# Altium footprint library VOU_SOM_Vlad.PcbLib: 31 footprints (part 2 of 2)
Each footprint in its own frame and in the unit in brackets; x right, y up, seen from the top. Pads: shape width x height; smd on the part's side, far side on the other; paste and mask are expansions set on the pad; w line width, h text height; cw(c..) or ccw(c..) is an arc to the next point about the centre after c.
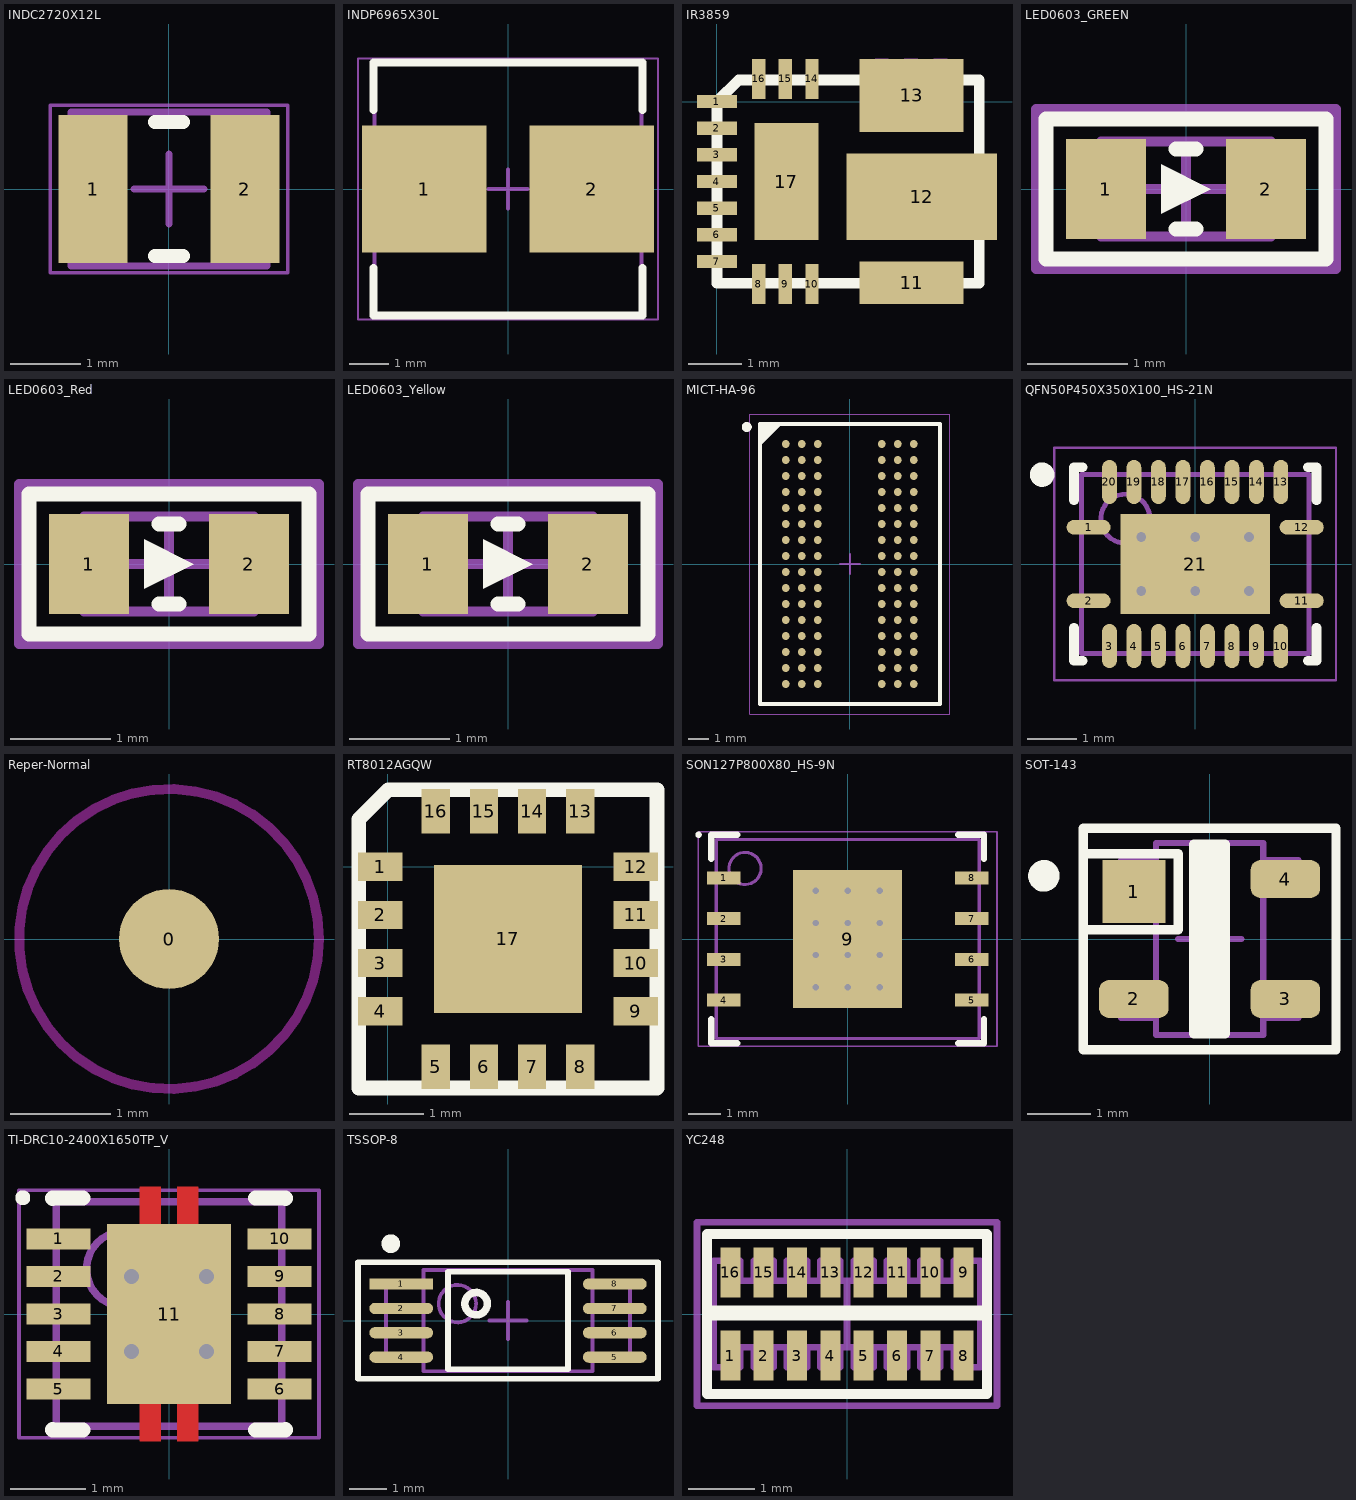
[diagram p1: the footprints below, top view; thin cyan lines are the x and y axes]

## INDC2720X12L [mm]
pads (2):
  rect 0.99x2.12 smd: 1(-1.085,0) 2(1.085,0)
Top Overlay:
  lines w0.2: -0.2,-0.96 0.2,-0.96 ; -0.2,0.96 0.2,0.96
Mechanical 13:
  lines w0.1: -1.4,-1.1 1.4,-1.1 1.4,1.1 -1.4,1.1 -1.4,-1.1
Mechanical 15:
  lines w0.05: -1.7,-1.2 1.7,-1.2 1.7,1.2 -1.7,1.2 -1.7,-1.2
  lines w0.1: -0.5,0 0.5,0 ; 0,-0.5 0,0.5
3D body: height 1.2, standoff 0, extent 0.8,-1.1 1.4,1.1
3D body: height 1.2, standoff 0, extent -1.4,-1.1 -0.8,1.1
3D body: height 1.2, standoff 0, extent -0.8,-1.1 0.8,1.1

## INDP6965X30L [mm]
pads (2):
  rect 3.2x3.25 smd: 1(-2.15,0) 2(2.15,0)
Top Overlay:
  lines w0.2: -3.45,-2.025 -3.45,-3.25 3.45,-3.25 3.45,-2.025 ; -3.45,2.025 -3.45,3.25 3.45,3.25 3.45,2.025
Mechanical 13:
  lines w0.1: -3.43,-3.235 -3.43,3.235 3.43,3.235 3.43,-3.235 -3.43,-3.235
Mechanical 15:
  lines w0.05: -3.85,-3.35 -3.85,3.35 3.85,3.35 3.85,-3.35 -3.85,-3.35
  lines w0.1: -0.5,0 0.5,0 ; 0,-0.5 0,0.5
3D body: height 3, standoff 0, extent -3.43,-3.235 3.43,3.235

## IR3859 [mm]
pads (17):
  rect 0.75x0.25 smd: 1(0,0) 2(0,-0.5) 3(0,-1) 4(0,-1.5) 5(0,-2) 6(0,-2.5) 7(0,-3)
  rect 0.25x0.75 smd: 8(0.78,-3.425) 9(1.28,-3.425) 10(1.78,-3.425) 14(1.78,0.425) 15(1.28,0.425) 16(0.78,0.425)
  rect 1.95x0.8 smd: 11(3.65,-3.395)
  rect 2.82x1.62 smd: 12(3.84,-1.785)
  rect 1.95x1.37 smd: 13(3.65,0.115)
  rect 1.2x2.19 smd: 17(1.3,-1.5)
Top Overlay:
  lines w0.2: 0,-3.41 4.915,-3.41 4.915,0.405 0.405,0.405 0,0 0,-3.41
Mechanical 11:
  pour cut-out: 2.975,-3.795 3.225,-3.795 3.225,-3.395 2.975,-3.395
  pour cut-out: 3.525,-3.795 3.775,-3.795 3.775,-3.395 3.525,-3.395
  pour cut-out: 4.075,-3.795 4.325,-3.795 4.325,-3.395 4.075,-3.395
  pour cut-out: 4.065,0.4 4.315,0.4 4.315,0.8 4.065,0.8
  pour cut-out: 3.515,0.4 3.765,0.4 3.765,0.8 3.515,0.8
  pour cut-out: 2.965,0.4 3.215,0.4 3.215,0.8 2.965,0.8
  pour cut-out: 5.25,-1.635 5.25,-1.275 4.85,-1.275 4.85,-1.635
  pour cut-out: 5.25,-2.295 5.25,-1.935 4.85,-1.935 4.85,-2.295
Mechanical 17:
  text ".Designator" at -0.6,1.3 h2.1
3D body: height 1, standoff 0.05, extent 0,-3.41 4.915,0.43

## LED0603_GREEN [mm]
pads (2):
  rect 0.8x1 smd: 1(-0.8,0) 2(0.8,0)
Top Overlay:
  region: -0.25,0.25 -0.25,-0.25 0.25,0
  lines w0.15: -0.1,-0.4 0.1,-0.4 ; -0.1,0.4 0.1,0.4 ; -1.4,-0.7 1.4,-0.7 1.4,0.7 -1.4,0.7 -1.4,-0.7
Mechanical 13:
  lines w0.1: -0.5,-0.475 -0.5,0.475 ; 0.5,-0.475 0.5,0.475 ; -0.85,-0.475 -0.85,0.475 0.85,0.475 0.85,-0.475 -0.85,-0.475
Mechanical 15:
  lines w0.1: -0.475,0 0.475,0 ; 0,-0.475 0,0.475 ; -1.5,-0.8 -1.5,0.8 1.5,0.8 1.5,-0.8 -1.5,-0.8
3D body "Led0603_GREEN.STEP": height 1.1, standoff 0, extent -0.81,-0.4 0.81,0.4

## LED0603_Red [mm]
pads (2):
  rect 0.8x1 smd: 1(-0.8,0) 2(0.8,0)
Top Overlay:
  region: -0.25,0.25 -0.25,-0.25 0.25,0
  lines w0.15: -0.1,-0.4 0.1,-0.4 ; -0.1,0.4 0.1,0.4 ; -1.4,-0.7 1.4,-0.7 1.4,0.7 -1.4,0.7 -1.4,-0.7
Mechanical 13:
  lines w0.1: -0.5,-0.475 -0.5,0.475 ; 0.5,-0.475 0.5,0.475 ; -0.85,-0.475 -0.85,0.475 0.85,0.475 0.85,-0.475 -0.85,-0.475
Mechanical 15:
  lines w0.1: -0.475,0 0.475,0 ; 0,-0.475 0,0.475 ; -1.5,-0.8 -1.5,0.8 1.5,0.8 1.5,-0.8 -1.5,-0.8
3D body "Led0603_RED (1).STEP": height 1.1, standoff 0, extent -0.81,-0.4 0.81,0.4

## LED0603_Yellow [mm]
pads (2):
  rect 0.8x1 smd: 1(-0.8,0) 2(0.8,0)
Top Overlay:
  region: -0.25,0.25 -0.25,-0.25 0.25,0
  lines w0.15: -0.1,-0.4 0.1,-0.4 ; -0.1,0.4 0.1,0.4 ; -1.4,-0.7 1.4,-0.7 1.4,0.7 -1.4,0.7 -1.4,-0.7
Mechanical 13:
  lines w0.1: -0.5,-0.475 -0.5,0.475 ; 0.5,-0.475 0.5,0.475 ; -0.85,-0.475 -0.85,0.475 0.85,0.475 0.85,-0.475 -0.85,-0.475
Mechanical 15:
  lines w0.1: -0.475,0 0.475,0 ; 0,-0.475 0,0.475 ; -1.5,-0.8 -1.5,0.8 1.5,0.8 1.5,-0.8 -1.5,-0.8
3D body "Led0603_yellow.STEP": height 1.1, standoff 0, extent -0.81,-0.4 0.81,0.4

## MICT-HA-96 [mm]
pads (96):
  round 0.4 smd: A1(-3.2,6) A2(-2.4,6) A3(-1.6,6) A7(1.6,6) A8(2.4,6) A9(3.2,6) B1(-3.2,5.2) B2(-2.4,5.2) B3(-1.6,5.2) B7(1.6,5.2) B8(2.4,5.2) B9(3.2,5.2) C1(-3.2,4.4) C2(-2.4,4.4) C3(-1.6,4.4) C7(1.6,4.4) C8(2.4,4.4) C9(3.2,4.4) D1(-3.2,3.6) D2(-2.4,3.6) D3(-1.6,3.6) D7(1.6,3.6) D8(2.4,3.6) D9(3.2,3.6) E1(-3.2,2.8) E2(-2.4,2.8) E3(-1.6,2.8) E7(1.6,2.8) E8(2.4,2.8) E9(3.2,2.8) F1(-3.2,2) F2(-2.4,2) F3(-1.6,2) F7(1.6,2) F8(2.4,2) F9(3.2,2) G1(-3.2,1.2) G2(-2.4,1.2) G3(-1.6,1.2) G7(1.6,1.2) G8(2.4,1.2) G9(3.2,1.2) H1(-3.2,0.4) H2(-2.4,0.4) H3(-1.6,0.4) H7(1.6,0.4) H8(2.4,0.4) H9(3.2,0.4) J1(-3.2,-0.4) J2(-2.4,-0.4) J3(-1.6,-0.4) J7(1.6,-0.4) J8(2.4,-0.4) J9(3.2,-0.4) K1(-3.2,-1.2) K2(-2.4,-1.2) K3(-1.6,-1.2) K7(1.6,-1.2) K8(2.4,-1.2) K9(3.2,-1.2) L1(-3.2,-2) L2(-2.4,-2) L3(-1.6,-2) L7(1.6,-2) L8(2.4,-2) L9(3.2,-2) M1(-3.2,-2.8) M2(-2.4,-2.8) M3(-1.6,-2.8) M7(1.6,-2.8) M8(2.4,-2.8) M9(3.2,-2.8) N1(-3.2,-3.6) N2(-2.4,-3.6) N3(-1.6,-3.6) N7(1.6,-3.6) N8(2.4,-3.6) N9(3.2,-3.6) P1(-3.2,-4.4) P2(-2.4,-4.4) P3(-1.6,-4.4) P7(1.6,-4.4) P8(2.4,-4.4) P9(3.2,-4.4) R1(-3.2,-5.2) R2(-2.4,-5.2) R3(-1.6,-5.2) R7(1.6,-5.2) R8(2.4,-5.2) R9(3.2,-5.2) T1(-3.2,-6) T2(-2.4,-6) T3(-1.6,-6) T7(1.6,-6) T8(2.4,-6) T9(3.2,-6)
Top Overlay:
  circle w0.25: c-5.15,6.85 r0.125
  region: -3.5,7 -4.5,6 -4.5,7
  lines w0.2: -4.5,6 -3.5,7 ; -4.5,-7 4.5,-7 4.5,7 -4.5,7 -4.5,-7
Mechanical 13:
  lines w0.1: -4.5,-7 4.5,-7 4.5,7 -4.5,7 -4.5,-7
Mechanical 15:
  lines w0.05: -5,-7.5 5,-7.5 5,7.5 -5,7.5 -5,-7.5
  lines w0.1: -0.5,0 0.5,0 ; 0,-0.5 0,0.5
Mechanical 17:
  text ".Designator" at -4.8,7.525 h2.1
3D body: height 0.1, standoff 0, extent -4.5,-7 4.5,7

## QFN50P450X350X100_HS-21N [mm]
pads (21):
  oval 0.9x0.3 smd: 1(-2.175,0.75) 2(-2.175,-0.75) 11(2.175,-0.75) 12(2.175,0.75)
  oval 0.3x0.9 smd: 3(-1.75,-1.675) 4(-1.25,-1.675) 5(-0.75,-1.675) 6(-0.25,-1.675) 7(0.25,-1.675) 8(0.75,-1.675) 9(1.25,-1.675) 10(1.75,-1.675) 13(1.75,1.675) 14(1.25,1.675) 15(0.75,1.675) 16(0.25,1.675) 17(-0.25,1.675) 18(-0.75,1.675) 19(-1.25,1.675) 20(-1.75,1.675)
  rect 3.05x2.05 smd: 21(0,0)
via -1.1,0.55 diameter 0.5 hole 0.2
via 0,0.55 diameter 0.5 hole 0.2
via 1.1,0.55 diameter 0.5 hole 0.2
via -1.1,-0.55 diameter 0.5 hole 0.2
via 0,-0.55 diameter 0.5 hole 0.2
via 1.1,-0.55 diameter 0.5 hole 0.2
Top Overlay:
  circle w0.25: c-3.125,1.825 r0.125
  lines w0.2: -2.475,-1.3 -2.475,-1.975 -2.3,-1.975 ; -2.475,1.3 -2.475,1.975 -2.3,1.975 ; 2.3,-1.975 2.475,-1.975 2.475,-1.3 ; 2.3,1.975 2.475,1.975 2.475,1.3
Mechanical 13:
  circle w0.1: c-1.425,0.925 r0.5
  lines w0.1: -2.325,-1.825 -2.325,1.825 2.325,1.825 2.325,-1.825 -2.325,-1.825
Mechanical 15:
  lines w0.05: -2.875,-2.375 -2.875,2.375 2.875,2.375 2.875,-2.375 -2.875,-2.375
  lines w0.1: -0.5,0 0.5,0 ; 0,-0.5 0,0.5
3D body: height 1, standoff 0.05, extent -2.325,-1.825 2.325,1.825

## Reper-Normal [mm]
pads (1):
  round 1 smd mask+1: 0(0,0)
Top Layer keep-out:
  circle w0.1: c0,0 r1.5

## RT8012AGQW [mm]
pads (17):
  rect 0.6x0.38 smd: 1(-0.1,0) 2(-0.1,-0.65) 3(-0.1,-1.3) 4(-0.1,-1.95) 9(3.35,-1.95) 10(3.35,-1.3) 11(3.35,-0.65) 12(3.35,0)
  rect 0.38x0.6 smd: 5(0.65,-2.7) 6(1.3,-2.7) 7(1.95,-2.7) 8(2.6,-2.7) 13(2.6,0.75) 14(1.95,0.75) 15(1.3,0.75) 16(0.65,0.75)
  rect 2x2 smd: 17(1.625,-0.975)
Top Overlay:
  lines w0.2: -0.39,-2.985 -0.39,0.64 0.01,1.04 3.635,1.04 3.635,-2.985 -0.39,-2.985
Mechanical 17:
  text ".Designator" at -1.125,1.675 h2.1
3D body: height 0.8, standoff 0.05, extent -0.4,-2.985 3.635,1.05

## SON127P800X80_HS-9N [mm]
pads (9):
  rect 1.05x0.4 smd: 1(-3.87,1.905) 2(-3.87,0.635) 3(-3.87,-0.635) 4(-3.87,-1.905) 5(3.87,-1.905) 6(3.87,-0.635) 7(3.87,0.635) 8(3.87,1.905)
  rect 3.4x4.3 smd paste-1.7: 9(0,0)
via -1,1.5 diameter 0.5 hole 0.2
via 0,1.5 diameter 0.5 hole 0.2
via 1,1.5 diameter 0.5 hole 0.2
via -1,0.5 diameter 0.5 hole 0.2
via 0,0.5 diameter 0.5 hole 0.2
via 1,0.5 diameter 0.5 hole 0.2
via -1,-0.5 diameter 0.5 hole 0.2
via 0,-0.5 diameter 0.5 hole 0.2
via 1,-0.5 diameter 0.5 hole 0.2
via -1,-1.5 diameter 0.5 hole 0.2
via 0,-1.5 diameter 0.5 hole 0.2
via 1,-1.5 diameter 0.5 hole 0.2
Top Overlay:
  circle w0.1: c-4.65,3.25 r0.05
  lines w0.2: -4.25,-2.505 -4.25,-3.25 -3.445,-3.25 ; -4.25,2.505 -4.25,3.25 -3.445,3.25 ; 3.445,-3.25 4.25,-3.25 4.25,-2.505 ; 3.445,3.25 4.25,3.25 4.25,2.505
Top Paste:
  rectangle: -1.595,0.815 -0.665,2.045
  rectangle: -1.595,-0.615 -0.665,0.615
  rectangle: -1.595,-2.045 -0.665,-0.815
  rectangle: -0.465,0.815 0.465,2.045
  rectangle: -0.465,-0.615 0.465,0.615
  rectangle: -0.465,-2.045 0.465,-0.815
  rectangle: 0.665,0.815 1.595,2.045
  rectangle: 0.665,-0.615 1.595,0.615
  rectangle: 0.665,-2.045 1.595,-0.815
Mechanical 13:
  circle w0.1: c-3.2,2.2 r0.5
  lines w0.1: -4.1,-3.1 -4.1,3.1 4.1,3.1 4.1,-3.1 -4.1,-3.1
Mechanical 15:
  lines w0.05: -4.655,-3.35 -4.655,3.35 4.655,3.35 4.655,-3.35 -4.655,-3.35
  lines w0.1: -0.5,0 0.5,0 ; 0,-0.5 0,0.5
3D body: height 0.8, standoff 0, extent -4.1,-3.1 4.1,3.1

## SOT-143 [mm]
pads (4):
  rect 1x1 smd: 1(-1.2,0.75)
  rrect50% 1.1x0.6 smd: 2(-1.2,-0.95) 3(1.2,-0.95) 4(1.2,0.95)
Top Overlay:
  circle w0.25: c-2.625,1 r0.125
  rectangle: -0.25,-1.5 0.25,1.5
  lines w0.15: -2,-1.75 2,-1.75 2,1.75 -2,1.75 -2,-1.75 ; -2,0.15 -2,1.35 -0.5,1.35 -0.5,0.15 -1.45,0.15 -2,0.15 ; -0.25,-1.5 -0.25,1.5 0.25,1.5 0.25,-1.5 -0.25,-1.5
Mechanical 13:
  lines w0.1: -0.85,-1.25 -1.4,-1.25 -1.4,-0.75 -0.85,-0.75 ; -0.85,0.75 -1.4,0.75 -1.4,1.25 -0.85,1.25 ; 0.85,-1.25 1.4,-1.25 1.4,-0.75 0.85,-0.75 ; 0.85,0.75 1.4,0.75 1.4,1.25 0.85,1.25 ; -0.85,-1.52 0.85,-1.52 0.85,1.52 -0.85,1.52 -0.85,-1.52
Mechanical 15:
  lines w0.1: -0.5,0 0.5,0 ; 0,-0.5 0,0.5 ; -2,-1.77 2,-1.77 2,1.77 -2,1.77 -2,-1.77
Mechanical 17:
  text ".Designator" at -2.9,2.425 h2.1

## TI-DRC10-2400X1650TP_V [mm]
pads (11):
  rect 0.85x0.28 smd: 1(-1.475,1) 2(-1.475,0.5) 3(-1.475,0) 4(-1.475,-0.5) 5(-1.475,-1) 6(1.475,-1) 7(1.475,-0.5) 8(1.475,0) 9(1.475,0.5) 10(1.475,1)
  rect 1.65x2.4 smd: 11(0,0)
via -0.5,0.5 diameter 0.5 hole 0.2
via 0.5,0.5 diameter 0.5 hole 0.2
via -0.5,-0.5 diameter 0.5 hole 0.2
via 0.5,-0.5 diameter 0.5 hole 0.2
Top Layer:
  region: -0.11,1.2 -0.11,1.7 -0.39,1.7 -0.39,1.2
  region: 0.11,-1.2 0.11,-1.7 0.39,-1.7 0.39,-1.2
  region: -0.11,-1.2 -0.11,-1.7 -0.39,-1.7 -0.39,-1.2
  region: 0.11,1.2 0.11,1.7 0.39,1.7 0.39,1.2
Top Overlay:
  circle w0.1: c-1.95,1.55 r0.05
  lines w0.2: -1.55,-1.54 -1.55,-1.55 -1.15,-1.55 ; -1.55,1.54 -1.55,1.55 -1.15,1.55 ; 1.15,-1.55 1.55,-1.55 1.55,-1.54 ; 1.15,1.55 1.55,1.55 1.55,1.54
Top Paste:
  region: -0.11,1.2 -0.11,1.7 -0.39,1.7 -0.39,1.2
  region: 0.11,-1.2 0.11,-1.7 0.39,-1.7 0.39,-1.2
  region: -0.11,-1.2 -0.11,-1.7 -0.39,-1.7 -0.39,-1.2
  region: 0.11,1.2 0.11,1.7 0.39,1.7 0.39,1.2
Mechanical 13:
  circle w0.1: c-0.6,0.6 r0.5
  lines w0.1: -1.5,-1.5 -1.5,1.5 1.5,1.5 1.5,-1.5 -1.5,-1.5
Mechanical 15:
  lines w0.05: -2,-1.65 -2,1.65 2,1.65 2,-1.65 -2,-1.65
  lines w0.1: -0.5,0 0.5,0 ; 0,-0.5 0,0.5
Mechanical 17:
  text ".Designator" at -2.35,2.25 h2.1
3D body: height 1, standoff 0, extent -1.5,-1.5 1.5,1.5

## TSSOP-8 [mm]
pads (8):
  rect 1.7x0.3 smd: 1(-2.85,0.975)
  oval 1.7x0.3 smd: 2(-2.85,0.325) 3(-2.85,-0.325) 4(-2.85,-0.975) 5(2.85,-0.975) 6(2.85,-0.325) 7(2.85,0.325) 8(2.85,0.975)
Top Overlay:
  circle w0.25: c-3.125,2.05 r0.125
  circle w0.2: c-0.85,0.45 r0.3
  lines w0.15: -4,-1.55 4,-1.55 4,1.55 -4,1.55 -4,-1.55 ; -1.6,-1.3 -1.6,1.3 1.6,1.3 1.6,-1.3 -1.6,-1.3
Mechanical 13:
  circle w0.1: c-1.35,0.45 r0.5
  lines w0.1: -2.25,-1.05 -3.25,-1.05 -3.25,1.05 -2.25,1.05 ; 2.25,-1.05 3.25,-1.05 3.25,1.05 2.25,1.05 ; -2.25,-1.35 -2.25,1.35 2.25,1.35 2.25,-1.35 -2.25,-1.35
Mechanical 15:
  lines w0.1: -0.5,0 0.5,0 ; 0,-0.5 0,0.5 ; -4,-1.55 -4,1.55 4,1.55 4,-1.55 -4,-1.55
3D body "TSSOP-8.STEP": height 1.2, standoff 0, extent -3.2,-1.5 3.2,1.5

## YC248 [mm] "8 chip array resistor pitch 0.5mm"
height 0.55
pads (16):
  rect 0.3x0.75 smd mask+0.05: 1(-1.75,-0.625) 2(-1.25,-0.625) 3(-0.75,-0.625) 4(-0.25,-0.625) 5(0.25,-0.625) 6(0.75,-0.625) 7(1.25,-0.625) 8(1.75,-0.625) 9(1.75,0.625) 10(1.25,0.625) 11(0.75,0.625) 12(0.25,0.625) 13(-0.25,0.625) 14(-0.75,0.625) 15(-1.25,0.625) 16(-1.75,0.625)
Top Overlay:
  lines w0.15: -2.1,-0.025 2.1,-0.025 ; -2.1,0.05 2.1,0.05 ; -2.1,-1.2 2.1,-1.2 2.1,1.2 -2.1,1.2 -2.1,-1.2
Mechanical 13:
  lines w0.1: -2,-0.8 -1.6,-0.8 -1.6,-0.5 -1.4,-0.5 -1.4,-0.8 -1.1,-0.8 -1.1,-0.5 -0.9,-0.5 -0.9,-0.8 -0.6,-0.8 -0.6,-0.5 -0.4,-0.5 -0.4,-0.8 -0.1,-0.8 -0.1,-0.5 0.1,-0.5 0.1,-0.8 0.4,-0.8 0.4,-0.5 0.6,-0.5 0.6,-0.8 0.9,-0.8 0.9,-0.5 1.1,-0.5 1.1,-0.8 1.4,-0.8 1.4,-0.5 1.6,-0.5 1.6,-0.8 2,-0.8 2,0.8 1.6,0.8 1.6,0.5 1.4,0.5 1.4,0.8 1.1,0.8 1.1,0.5 0.9,0.5 0.9,0.8 0.6,0.8 0.6,0.5 0.4,0.5 0.4,0.8 0.1,0.8 0.1,0.5 -0.1,0.5 -0.1,0.8 -0.4,0.8 -0.4,0.5 -0.6,0.5 -0.6,0.8 -0.9,0.8 -0.9,0.5 -1.1,0.5 -1.1,0.8 -1.4,0.8 -1.4,0.5 -1.6,0.5 -1.6,0.8 -2,0.8 -2,-0.8
Mechanical 15:
  lines w0.1: -0.4,0 0.4,0 ; 0,-0.5 0,0.5 ; -2.25,-1.375 2.25,-1.375 2.25,1.375 -2.25,1.375 -2.25,-1.375
Mechanical 17:
  text ".Designator" at -3.775,2.1 h2.1
3D body "YC248.stp": height 0.45, standoff 0, extent -2,-0.8 2,0.8